# Altium footprint library LQFP.PcbLib: 57 footprints (part 4 of 4)
Each footprint in its own frame and in the unit in brackets; x right, y up, seen from the top. Pads: shape width x height; smd on the part's side, far side on the other; paste and mask are expansions set on the pad; w line width, h text height; cw(c..) or ccw(c..) is an arc to the next point about the centre after c.
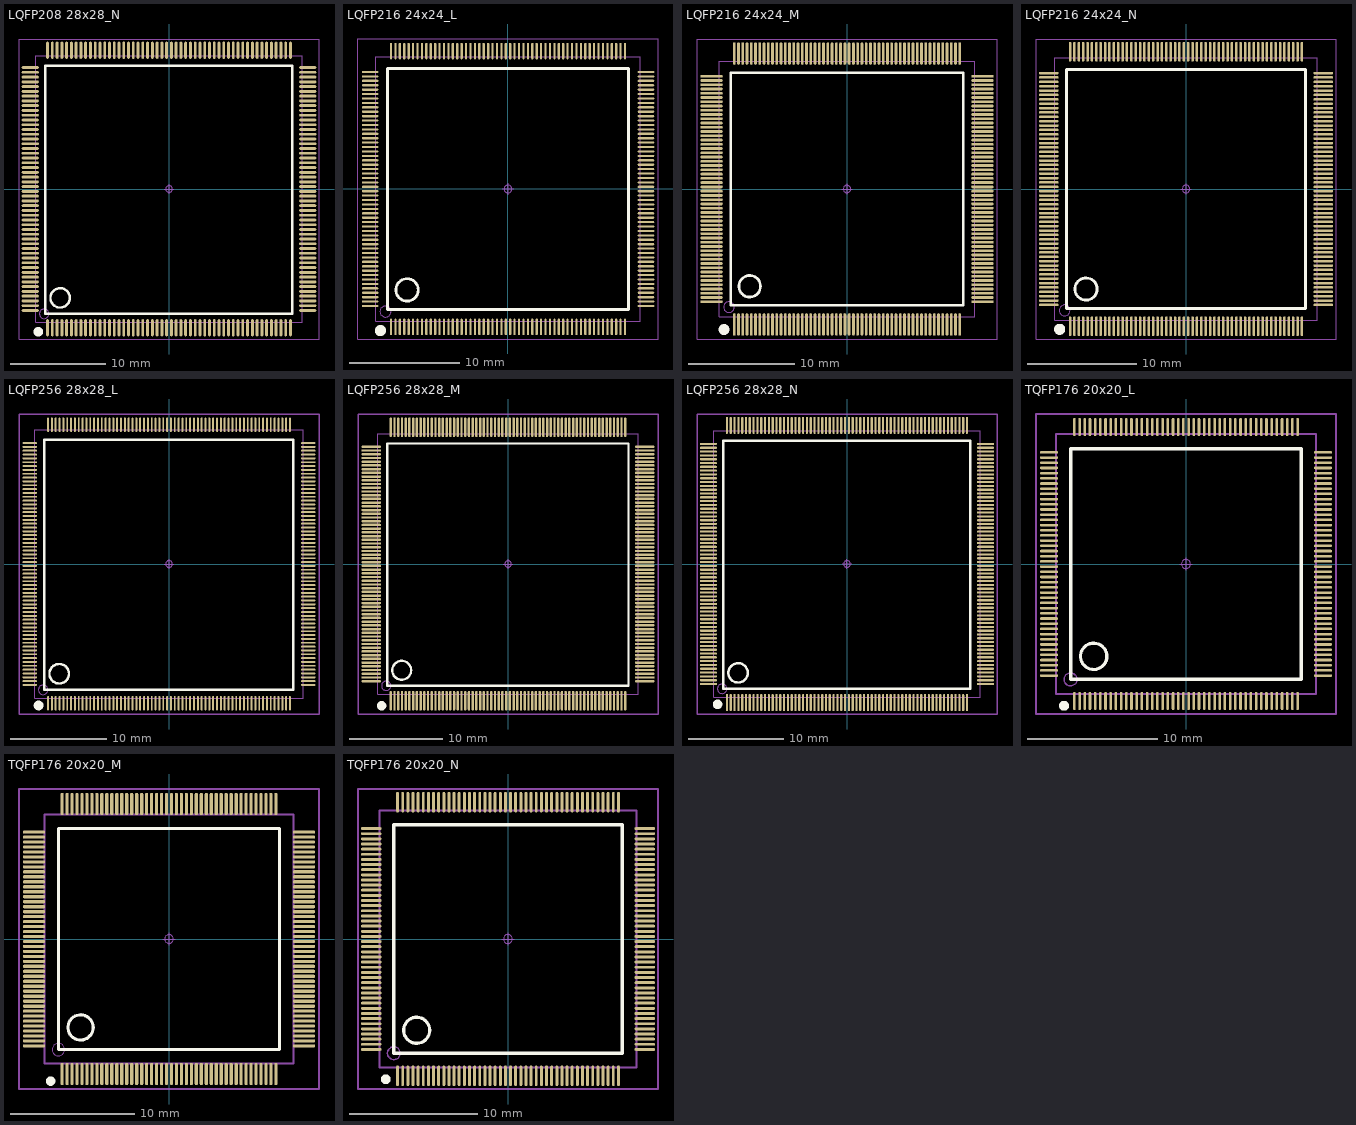
[diagram p3: the footprints below, top view; thin cyan lines are the x and y axes]

## LQFP208 28x28_N [mm] "208脚，体宽28x28mm，脚距0.5mm"
height 4.3
pads (208):
  oval 0.3x1.8 smd: 1(-12.75,-14.568) 2(-12.25,-14.568) 3(-11.75,-14.568) 4(-11.25,-14.568) 5(-10.75,-14.568) 6(-10.25,-14.568) 7(-9.75,-14.568) 8(-9.25,-14.568) 9(-8.75,-14.568) 10(-8.25,-14.568) 11(-7.75,-14.568) 12(-7.25,-14.568) 13(-6.75,-14.568) 14(-6.25,-14.568) 15(-5.75,-14.568) 16(-5.25,-14.568) 17(-4.75,-14.568) 18(-4.25,-14.568) 19(-3.75,-14.568) 20(-3.25,-14.568) 21(-2.75,-14.568) 22(-2.25,-14.568) 23(-1.75,-14.568) 24(-1.25,-14.568) 25(-0.75,-14.568) 26(-0.25,-14.568) 27(0.25,-14.568) 28(0.75,-14.568) 29(1.25,-14.568) 30(1.75,-14.568) 31(2.25,-14.568) 32(2.75,-14.568) 33(3.25,-14.568) 34(3.75,-14.568) 35(4.25,-14.568) 36(4.75,-14.568) 37(5.25,-14.568) 38(5.75,-14.568) 39(6.25,-14.568) 40(6.75,-14.568) 41(7.25,-14.568) 42(7.75,-14.568) 43(8.25,-14.568) 44(8.75,-14.568) 45(9.25,-14.568) 46(9.75,-14.568) 47(10.25,-14.568) 48(10.75,-14.568) 49(11.25,-14.568) 50(11.75,-14.568) 51(12.25,-14.568) 52(12.75,-14.568) 105(12.75,14.568) 106(12.25,14.568) 107(11.75,14.568) 108(11.25,14.568) 109(10.75,14.568) 110(10.25,14.568) 111(9.75,14.568) 112(9.25,14.568) 113(8.75,14.568) 114(8.25,14.568) 115(7.75,14.568) 116(7.25,14.568) 117(6.75,14.568) 118(6.25,14.568) 119(5.75,14.568) 120(5.25,14.568) 121(4.75,14.568) 122(4.25,14.568) 123(3.75,14.568) 124(3.25,14.568) 125(2.75,14.568) 126(2.25,14.568) 127(1.75,14.568) 128(1.25,14.568) 129(0.75,14.568) 130(0.25,14.568) 131(-0.25,14.568) 132(-0.75,14.568) 133(-1.25,14.568) 134(-1.75,14.568) 135(-2.25,14.568) 136(-2.75,14.568) 137(-3.25,14.568) 138(-3.75,14.568) 139(-4.25,14.568) 140(-4.75,14.568) 141(-5.25,14.568) 142(-5.75,14.568) 143(-6.25,14.568) 144(-6.75,14.568) 145(-7.25,14.568) 146(-7.75,14.568) 147(-8.25,14.568) 148(-8.75,14.568) 149(-9.25,14.568) 150(-9.75,14.568) 151(-10.25,14.568) 152(-10.75,14.568) 153(-11.25,14.568) 154(-11.75,14.568) 155(-12.25,14.568) 156(-12.75,14.568)
  oval 1.8x0.3 smd: 53(14.568,-12.75) 54(14.568,-12.25) 55(14.568,-11.75) 56(14.568,-11.25) 57(14.568,-10.75) 58(14.568,-10.25) 59(14.568,-9.75) 60(14.568,-9.25) 61(14.568,-8.75) 62(14.568,-8.25) 63(14.568,-7.75) 64(14.568,-7.25) 65(14.568,-6.75) 66(14.568,-6.25) 67(14.568,-5.75) 68(14.568,-5.25) 69(14.568,-4.75) 70(14.568,-4.25) 71(14.568,-3.75) 72(14.568,-3.25) 73(14.568,-2.75) 74(14.568,-2.25) 75(14.568,-1.75) 76(14.568,-1.25) 77(14.568,-0.75) 78(14.568,-0.25) 79(14.568,0.25) 80(14.568,0.75) 81(14.568,1.25) 82(14.568,1.75) 83(14.568,2.25) 84(14.568,2.75) 85(14.568,3.25) 86(14.568,3.75) 87(14.568,4.25) 88(14.568,4.75) 89(14.568,5.25) 90(14.568,5.75) 91(14.568,6.25) 92(14.568,6.75) 93(14.568,7.25) 94(14.568,7.75) 95(14.568,8.25) 96(14.568,8.75) 97(14.568,9.25) 98(14.568,9.75) 99(14.568,10.25) 100(14.568,10.75) 101(14.568,11.25) 102(14.568,11.75) 103(14.568,12.25) 104(14.568,12.75) 157(-14.568,12.75) 158(-14.568,12.25) 159(-14.568,11.75) 160(-14.568,11.25) 161(-14.568,10.75) 162(-14.568,10.25) 163(-14.568,9.75) 164(-14.568,9.25) 165(-14.568,8.75) 166(-14.568,8.25) 167(-14.568,7.75) 168(-14.568,7.25) 169(-14.568,6.75) 170(-14.568,6.25) 171(-14.568,5.75) 172(-14.568,5.25) 173(-14.568,4.75) 174(-14.568,4.25) 175(-14.568,3.75) 176(-14.568,3.25) 177(-14.568,2.75) 178(-14.568,2.25) 179(-14.568,1.75) 180(-14.568,1.25) 181(-14.568,0.75) 182(-14.568,0.25) 183(-14.568,-0.25) 184(-14.568,-0.75) 185(-14.568,-1.25) 186(-14.568,-1.75) 187(-14.568,-2.25) 188(-14.568,-2.75) 189(-14.568,-3.25) 190(-14.568,-3.75) 191(-14.568,-4.25) 192(-14.568,-4.75) 193(-14.568,-5.25) 194(-14.568,-5.75) 195(-14.568,-6.25) 196(-14.568,-6.75) 197(-14.568,-7.25) 198(-14.568,-7.75) 199(-14.568,-8.25) 200(-14.568,-8.75) 201(-14.568,-9.25) 202(-14.568,-9.75) 203(-14.568,-10.25) 204(-14.568,-10.75) 205(-14.568,-11.25) 206(-14.568,-11.75) 207(-14.568,-12.25) 208(-14.568,-12.75)
Top Overlay:
  circle w0.508: c-13.716,-14.986 r0.25
  circle w0.254: c-11.43,-11.43 r1.016
  lines w0.254: -13,-13.081 -13,12.954 12.954,12.954 12.954,-13.081 -13,-13.081
Mechanical 13:
  circle w0.1: c-13.1,-13.1 r0.5
  lines w0.1: -14,-14 14,-14 14,14 -14,14 -14,-14
Mechanical 15:
  circle w0.05: c0,0 r0.35
  lines w0.05: -0.5,0 0.5,0 ; 0,-0.5 0,0.5
  lines w0.1: -15.748,-15.748 -15.748,15.748 15.748,15.748 15.748,-15.748 -15.748,-15.748
3D body: height 1.45, standoff -0.01, extent -15.003,-15.003 15.003,15.003

## LQFP216 24x24_L [mm] "216脚，体宽24x24mm，脚距0.4mm"
pads (216):
  oval 0.2x1.5 smd: 1(-10.598,-12.498) 2(-10.198,-12.498) 3(-9.798,-12.498) 4(-9.398,-12.498) 5(-8.998,-12.498) 6(-8.598,-12.498) 7(-8.198,-12.498) 8(-7.798,-12.498) 9(-7.398,-12.498) 10(-6.998,-12.498) 11(-6.598,-12.498) 12(-6.198,-12.498) 13(-5.798,-12.498) 14(-5.398,-12.498) 15(-4.998,-12.498) 16(-4.598,-12.498) 17(-4.198,-12.498) 18(-3.798,-12.498) 19(-3.398,-12.498) 20(-2.998,-12.498) 21(-2.598,-12.498) 22(-2.198,-12.498) 23(-1.798,-12.498) 24(-1.398,-12.498) 25(-0.998,-12.498) 26(-0.598,-12.498) 27(-0.198,-12.498) 28(0.202,-12.498) 29(0.602,-12.498) 30(1.002,-12.498) 31(1.402,-12.498) 32(1.802,-12.498) 33(2.202,-12.498) 34(2.602,-12.498) 35(3.002,-12.498) 36(3.402,-12.498) 37(3.802,-12.498) 38(4.202,-12.498) 39(4.602,-12.498) 40(5.002,-12.498) 41(5.402,-12.498) 42(5.802,-12.498) 43(6.202,-12.498) 44(6.602,-12.498) 45(7.002,-12.498) 46(7.402,-12.498) 47(7.802,-12.498) 48(8.202,-12.498) 49(8.602,-12.498) 50(9.002,-12.498) 51(9.402,-12.498) 52(9.802,-12.498) 53(10.202,-12.498) 54(10.602,-12.498) 109(10.602,12.498) 110(10.202,12.498) 111(9.802,12.498) 112(9.402,12.498) 113(9.002,12.498) 114(8.602,12.498) 115(8.202,12.498) 116(7.802,12.498) 117(7.402,12.498) 118(7.002,12.498) 119(6.602,12.498) 120(6.202,12.498) 121(5.802,12.498) 122(5.402,12.498) 123(5.002,12.498) 124(4.602,12.498) 125(4.202,12.498) 126(3.802,12.498) 127(3.402,12.498) 128(3.002,12.498) 129(2.602,12.498) 130(2.202,12.498) 131(1.802,12.498) 132(1.402,12.498) 133(1.002,12.498) 134(0.602,12.498) 135(0.202,12.498) 136(-0.198,12.498) 137(-0.598,12.498) 138(-0.998,12.498) 139(-1.398,12.498) 140(-1.798,12.498) 141(-2.198,12.498) 142(-2.598,12.498) 143(-2.998,12.498) 144(-3.398,12.498) 145(-3.798,12.498) 146(-4.198,12.498) 147(-4.598,12.498) 148(-4.998,12.498) 149(-5.398,12.498) 150(-5.798,12.498) 151(-6.198,12.498) 152(-6.598,12.498) 153(-6.998,12.498) 154(-7.398,12.498) 155(-7.798,12.498) 156(-8.198,12.498) 157(-8.598,12.498) 158(-8.998,12.498) 159(-9.398,12.498) 160(-9.798,12.498) 161(-10.198,12.498) 162(-10.598,12.498)
  oval 1.5x0.2 smd: 55(12.5,-10.6) 56(12.5,-10.2) 57(12.5,-9.8) 58(12.5,-9.4) 59(12.5,-9) 60(12.5,-8.6) 61(12.5,-8.2) 62(12.5,-7.8) 63(12.5,-7.4) 64(12.5,-7) 65(12.5,-6.6) 66(12.5,-6.2) 67(12.5,-5.8) 68(12.5,-5.4) 69(12.5,-5) 70(12.5,-4.6) 71(12.5,-4.2) 72(12.5,-3.8) 73(12.5,-3.4) 74(12.5,-3) 75(12.5,-2.6) 76(12.5,-2.2) 77(12.5,-1.8) 78(12.5,-1.4) 79(12.5,-1) 80(12.5,-0.6) 81(12.5,-0.2) 82(12.5,0.2) 83(12.5,0.6) 84(12.5,1) 85(12.5,1.4) 86(12.5,1.8) 87(12.5,2.2) 88(12.5,2.6) 89(12.5,3) 90(12.5,3.4) 91(12.5,3.8) 92(12.5,4.2) 93(12.5,4.6) 94(12.5,5) 95(12.5,5.4) 96(12.5,5.8) 97(12.5,6.2) 98(12.5,6.6) 99(12.5,7) 100(12.5,7.4) 101(12.5,7.8) 102(12.5,8.2) 103(12.5,8.6) 104(12.5,9) 105(12.5,9.4) 106(12.5,9.8) 107(12.5,10.2) 108(12.5,10.6) 163(-12.497,10.6) 164(-12.497,10.2) 165(-12.497,9.8) 166(-12.497,9.4) 167(-12.497,9) 168(-12.497,8.6) 169(-12.497,8.2) 170(-12.497,7.8) 171(-12.497,7.4) 172(-12.497,7) 173(-12.497,6.6) 174(-12.497,6.2) 175(-12.497,5.8) 176(-12.497,5.4) 177(-12.497,5) 178(-12.497,4.6) 179(-12.497,4.2) 180(-12.497,3.8) 181(-12.497,3.4) 182(-12.497,3) 183(-12.497,2.6) 184(-12.497,2.2) 185(-12.497,1.8) 186(-12.497,1.4) 187(-12.497,1) 188(-12.497,0.6) 189(-12.497,0.2) 190(-12.497,-0.2) 191(-12.497,-0.6) 192(-12.497,-1) 193(-12.497,-1.4) 194(-12.497,-1.8) 195(-12.497,-2.2) 196(-12.497,-2.6) 197(-12.497,-3) 198(-12.497,-3.4) 199(-12.497,-3.8) 200(-12.497,-4.2) 201(-12.497,-4.6) 202(-12.497,-5) 203(-12.497,-5.4) 204(-12.497,-5.8) 205(-12.497,-6.2) 206(-12.497,-6.6) 207(-12.497,-7) 208(-12.497,-7.4) 209(-12.497,-7.8) 210(-12.497,-8.2) 211(-12.497,-8.6) 212(-12.497,-9) 213(-12.497,-9.4) 214(-12.497,-9.8) 215(-12.497,-10.2) 216(-12.497,-10.6)
Top Overlay:
  circle w0.508: c-11.557,-12.827 r0.25
  circle w0.254: c-9.142,-9.144 r1.016
  lines w0.254: -10.92,-10.922 10.924,-10.922 10.924,10.922 -10.92,10.922 -10.92,-10.922
Mechanical 13:
  circle w0.1: c-11.098,-11.1 r0.5
  lines w0.1: -11.998,-12 -11.998,12 12.002,12 12.002,-12 -11.998,-12
Mechanical 15:
  circle w0.05: c0.002,0 r0.35
  lines w0.05: -0.498,0 0.502,0 ; 0.002,-0.5 0.002,0.5
  lines w0.1: -13.589,-13.589 13.589,-13.589 13.589,13.589 -13.589,13.589 -13.589,-13.589
3D body: height 1.45, standoff -0.01, extent -13.001,-13.003 13.004,13.003

## LQFP216 24x24_M [mm] "216脚，体宽24x24mm，脚距0.4mm"
pads (216):
  oval 0.26x2.1 smd: 1(-10.6,-12.727) 2(-10.2,-12.727) 3(-9.8,-12.727) 4(-9.4,-12.727) 5(-9,-12.727) 6(-8.6,-12.727) 7(-8.2,-12.727) 8(-7.8,-12.727) 9(-7.4,-12.727) 10(-7,-12.727) 11(-6.6,-12.727) 12(-6.2,-12.727) 13(-5.8,-12.727) 14(-5.4,-12.727) 15(-5,-12.727) 16(-4.6,-12.727) 17(-4.2,-12.727) 18(-3.8,-12.727) 19(-3.4,-12.727) 20(-3,-12.727) 21(-2.6,-12.727) 22(-2.2,-12.727) 23(-1.8,-12.727) 24(-1.4,-12.727) 25(-1,-12.727) 26(-0.6,-12.727) 27(-0.2,-12.727) 28(0.2,-12.727) 29(0.6,-12.727) 30(1,-12.727) 31(1.4,-12.727) 32(1.8,-12.727) 33(2.2,-12.727) 34(2.6,-12.727) 35(3,-12.727) 36(3.4,-12.727) 37(3.8,-12.727) 38(4.2,-12.727) 39(4.6,-12.727) 40(5,-12.727) 41(5.4,-12.727) 42(5.8,-12.727) 43(6.2,-12.727) 44(6.6,-12.727) 45(7,-12.727) 46(7.4,-12.727) 47(7.8,-12.727) 48(8.2,-12.727) 49(8.6,-12.727) 50(9,-12.727) 51(9.4,-12.727) 52(9.8,-12.727) 53(10.2,-12.727) 54(10.6,-12.727) 109(10.6,12.727) 110(10.2,12.727) 111(9.8,12.727) 112(9.4,12.727) 113(9,12.727) 114(8.6,12.727) 115(8.2,12.727) 116(7.8,12.727) 117(7.4,12.727) 118(7,12.727) 119(6.6,12.727) 120(6.2,12.727) 121(5.8,12.727) 122(5.4,12.727) 123(5,12.727) 124(4.6,12.727) 125(4.2,12.727) 126(3.8,12.727) 127(3.4,12.727) 128(3,12.727) 129(2.6,12.727) 130(2.2,12.727) 131(1.8,12.727) 132(1.4,12.727) 133(1,12.727) 134(0.6,12.727) 135(0.2,12.727) 136(-0.2,12.727) 137(-0.6,12.727) 138(-1,12.727) 139(-1.4,12.727) 140(-1.8,12.727) 141(-2.2,12.727) 142(-2.6,12.727) 143(-3,12.727) 144(-3.4,12.727) 145(-3.8,12.727) 146(-4.2,12.727) 147(-4.6,12.727) 148(-5,12.727) 149(-5.4,12.727) 150(-5.8,12.727) 151(-6.2,12.727) 152(-6.6,12.727) 153(-7,12.727) 154(-7.4,12.727) 155(-7.8,12.727) 156(-8.2,12.727) 157(-8.6,12.727) 158(-9,12.727) 159(-9.4,12.727) 160(-9.8,12.727) 161(-10.2,12.727) 162(-10.6,12.727)
  oval 2.1x0.26 smd: 55(12.727,-10.6) 56(12.727,-10.2) 57(12.727,-9.8) 58(12.727,-9.4) 59(12.727,-9) 60(12.727,-8.6) 61(12.727,-8.2) 62(12.727,-7.8) 63(12.727,-7.4) 64(12.727,-7) 65(12.727,-6.6) 66(12.727,-6.2) 67(12.727,-5.8) 68(12.727,-5.4) 69(12.727,-5) 70(12.727,-4.6) 71(12.727,-4.2) 72(12.727,-3.8) 73(12.727,-3.4) 74(12.727,-3) 75(12.727,-2.6) 76(12.727,-2.2) 77(12.727,-1.8) 78(12.727,-1.4) 79(12.727,-1) 80(12.727,-0.6) 81(12.727,-0.2) 82(12.727,0.2) 83(12.727,0.6) 84(12.727,1) 85(12.727,1.4) 86(12.727,1.8) 87(12.727,2.2) 88(12.727,2.6) 89(12.727,3) 90(12.727,3.4) 91(12.727,3.8) 92(12.727,4.2) 93(12.727,4.6) 94(12.727,5) 95(12.727,5.4) 96(12.727,5.8) 97(12.727,6.2) 98(12.727,6.6) 99(12.727,7) 100(12.727,7.4) 101(12.727,7.8) 102(12.727,8.2) 103(12.727,8.6) 104(12.727,9) 105(12.727,9.4) 106(12.727,9.8) 107(12.727,10.2) 108(12.727,10.6) 163(-12.727,10.6) 164(-12.727,10.2) 165(-12.727,9.8) 166(-12.727,9.4) 167(-12.727,9) 168(-12.727,8.6) 169(-12.727,8.2) 170(-12.727,7.8) 171(-12.727,7.4) 172(-12.727,7) 173(-12.727,6.6) 174(-12.727,6.2) 175(-12.727,5.8) 176(-12.727,5.4) 177(-12.727,5) 178(-12.727,4.6) 179(-12.727,4.2) 180(-12.727,3.8) 181(-12.727,3.4) 182(-12.727,3) 183(-12.727,2.6) 184(-12.727,2.2) 185(-12.727,1.8) 186(-12.727,1.4) 187(-12.727,1) 188(-12.727,0.6) 189(-12.727,0.2) 190(-12.727,-0.2) 191(-12.727,-0.6) 192(-12.727,-1) 193(-12.727,-1.4) 194(-12.727,-1.8) 195(-12.727,-2.2) 196(-12.727,-2.6) 197(-12.727,-3) 198(-12.727,-3.4) 199(-12.727,-3.8) 200(-12.727,-4.2) 201(-12.727,-4.6) 202(-12.727,-5) 203(-12.727,-5.4) 204(-12.727,-5.8) 205(-12.727,-6.2) 206(-12.727,-6.6) 207(-12.727,-7) 208(-12.727,-7.4) 209(-12.727,-7.8) 210(-12.727,-8.2) 211(-12.727,-8.6) 212(-12.727,-9) 213(-12.727,-9.4) 214(-12.727,-9.8) 215(-12.727,-10.2) 216(-12.727,-10.6)
Top Overlay:
  circle w0.254: c-9.144,-9.144 r1.016
  circle w0.508: c-11.557,-13.208 r0.25
  lines w0.254: -10.922,-10.922 -10.922,10.922 10.922,10.922 10.922,-10.922 -10.922,-10.922
Mechanical 13:
  circle w0.1: c-11.1,-11.1 r0.5
  lines w0.1: -12,-12 12,-12 12,12 -12,12 -12,-12
Mechanical 15:
  circle w0.05: c0,0 r0.35
  lines w0.05: -0.5,0 0.5,0 ; 0,-0.5 0,0.5
  lines w0.1: -14.097,-14.097 -14.097,14.097 14.097,14.097 14.097,-14.097 -14.097,-14.097
3D body: height 1.45, standoff -0.01, extent -13.003,-13.003 13.003,13.003

## LQFP216 24x24_N [mm] "216脚，体宽24x24mm，脚距0.4mm"
pads (216):
  oval 0.23x1.8 smd: 1(-10.6,-12.551) 2(-10.2,-12.551) 3(-9.8,-12.551) 4(-9.4,-12.551) 5(-9,-12.551) 6(-8.6,-12.551) 7(-8.2,-12.551) 8(-7.8,-12.551) 9(-7.4,-12.551) 10(-7,-12.551) 11(-6.6,-12.551) 12(-6.2,-12.551) 13(-5.8,-12.551) 14(-5.4,-12.551) 15(-5,-12.551) 16(-4.6,-12.551) 17(-4.2,-12.551) 18(-3.8,-12.551) 19(-3.4,-12.551) 20(-3,-12.551) 21(-2.6,-12.551) 22(-2.2,-12.551) 23(-1.8,-12.551) 24(-1.4,-12.551) 25(-1,-12.551) 26(-0.6,-12.551) 27(-0.2,-12.551) 28(0.2,-12.551) 29(0.6,-12.551) 30(1,-12.551) 31(1.4,-12.551) 32(1.8,-12.551) 33(2.2,-12.551) 34(2.6,-12.551) 35(3,-12.551) 36(3.4,-12.551) 37(3.8,-12.551) 38(4.2,-12.551) 39(4.6,-12.551) 40(5,-12.551) 41(5.4,-12.551) 42(5.8,-12.551) 43(6.2,-12.551) 44(6.6,-12.551) 45(7,-12.551) 46(7.4,-12.551) 47(7.8,-12.551) 48(8.2,-12.551) 49(8.6,-12.551) 50(9,-12.551) 51(9.4,-12.551) 52(9.8,-12.551) 53(10.2,-12.551) 54(10.6,-12.551) 109(10.6,12.548) 110(10.2,12.548) 111(9.8,12.548) 112(9.4,12.548) 113(9,12.548) 114(8.6,12.548) 115(8.2,12.548) 116(7.8,12.548) 117(7.4,12.548) 118(7,12.548) 119(6.6,12.548) 120(6.2,12.548) 121(5.8,12.548) 122(5.4,12.548) 123(5,12.548) 124(4.6,12.548) 125(4.2,12.548) 126(3.8,12.548) 127(3.4,12.548) 128(3,12.548) 129(2.6,12.548) 130(2.2,12.548) 131(1.8,12.548) 132(1.4,12.548) 133(1,12.548) 134(0.6,12.548) 135(0.2,12.548) 136(-0.2,12.548) 137(-0.6,12.548) 138(-1,12.548) 139(-1.4,12.548) 140(-1.8,12.548) 141(-2.2,12.548) 142(-2.6,12.548) 143(-3,12.548) 144(-3.4,12.548) 145(-3.8,12.548) 146(-4.2,12.548) 147(-4.6,12.548) 148(-5,12.548) 149(-5.4,12.548) 150(-5.8,12.548) 151(-6.2,12.548) 152(-6.6,12.548) 153(-7,12.548) 154(-7.4,12.548) 155(-7.8,12.548) 156(-8.2,12.548) 157(-8.6,12.548) 158(-9,12.548) 159(-9.4,12.548) 160(-9.8,12.548) 161(-10.2,12.548) 162(-10.6,12.548)
  oval 1.8x0.23 smd: 55(12.549,-10.602) 56(12.549,-10.202) 57(12.549,-9.802) 58(12.549,-9.402) 59(12.549,-9.002) 60(12.549,-8.602) 61(12.549,-8.202) 62(12.549,-7.802) 63(12.549,-7.402) 64(12.549,-7.002) 65(12.549,-6.602) 66(12.549,-6.202) 67(12.549,-5.802) 68(12.549,-5.402) 69(12.549,-5.002) 70(12.549,-4.602) 71(12.549,-4.202) 72(12.549,-3.802) 73(12.549,-3.402) 74(12.549,-3.002) 75(12.549,-2.602) 76(12.549,-2.202) 77(12.549,-1.802) 78(12.549,-1.402) 79(12.549,-1.002) 80(12.549,-0.602) 81(12.549,-0.202) 82(12.549,0.198) 83(12.549,0.598) 84(12.549,0.998) 85(12.549,1.398) 86(12.549,1.798) 87(12.549,2.198) 88(12.549,2.598) 89(12.549,2.998) 90(12.549,3.398) 91(12.549,3.798) 92(12.549,4.198) 93(12.549,4.598) 94(12.549,4.998) 95(12.549,5.398) 96(12.549,5.798) 97(12.549,6.198) 98(12.549,6.598) 99(12.549,6.998) 100(12.549,7.398) 101(12.549,7.798) 102(12.549,8.198) 103(12.549,8.598) 104(12.549,8.998) 105(12.549,9.398) 106(12.549,9.798) 107(12.549,10.198) 108(12.549,10.598) 163(-12.549,10.598) 164(-12.549,10.198) 165(-12.549,9.798) 166(-12.549,9.398) 167(-12.549,8.998) 168(-12.549,8.598) 169(-12.549,8.198) 170(-12.549,7.798) 171(-12.549,7.398) 172(-12.549,6.998) 173(-12.549,6.598) 174(-12.549,6.198) 175(-12.549,5.798) 176(-12.549,5.398) 177(-12.549,4.998) 178(-12.549,4.598) 179(-12.549,4.198) 180(-12.549,3.798) 181(-12.549,3.398) 182(-12.549,2.998) 183(-12.549,2.598) 184(-12.549,2.198) 185(-12.549,1.798) 186(-12.549,1.398) 187(-12.549,0.998) 188(-12.549,0.598) 189(-12.549,0.198) 190(-12.549,-0.202) 191(-12.549,-0.602) 192(-12.549,-1.002) 193(-12.549,-1.402) 194(-12.549,-1.802) 195(-12.549,-2.202) 196(-12.549,-2.602) 197(-12.549,-3.002) 198(-12.549,-3.402) 199(-12.549,-3.802) 200(-12.549,-4.202) 201(-12.549,-4.602) 202(-12.549,-5.002) 203(-12.549,-5.402) 204(-12.549,-5.802) 205(-12.549,-6.202) 206(-12.549,-6.602) 207(-12.549,-7.002) 208(-12.549,-7.402) 209(-12.549,-7.802) 210(-12.549,-8.202) 211(-12.549,-8.602) 212(-12.549,-9.002) 213(-12.549,-9.402) 214(-12.549,-9.802) 215(-12.549,-10.202) 216(-12.549,-10.602)
Top Overlay:
  circle w0.508: c-11.557,-12.827 r0.25
  circle w0.254: c-9.144,-9.146 r1.016
  lines w0.254: -10.922,-10.924 10.922,-10.924 10.922,10.92 -10.922,10.92 -10.922,-10.924
Mechanical 13:
  circle w0.1: c-11.1,-11.102 r0.5
  lines w0.1: -12,-12.002 -12,11.998 12,11.998 12,-12.002 -12,-12.002
Mechanical 15:
  circle w0.05: c0,-0.002 r0.35
  lines w0.05: -0.5,-0.002 0.5,-0.002 ; 0,-0.502 0,0.498
  lines w0.1: -13.716,-13.716 13.716,-13.716 13.716,13.716 -13.716,13.716 -13.716,-13.716
3D body: height 1.45, standoff -0.01, extent -13.003,-13.004 13.003,13.001

## LQFP256 28x28_L [mm] "256脚，体宽28x28mm，脚距0.4mm"
pads (256):
  oval 0.2x1.5 smd: 1(-12.605,-14.497) 2(-12.205,-14.497) 3(-11.805,-14.497) 4(-11.405,-14.497) 5(-11.005,-14.497) 6(-10.605,-14.497) 7(-10.205,-14.497) 8(-9.805,-14.497) 9(-9.405,-14.497) 10(-9.005,-14.497) 11(-8.605,-14.497) 12(-8.205,-14.497) 13(-7.805,-14.497) 14(-7.405,-14.497) 15(-7.005,-14.497) 16(-6.605,-14.497) 17(-6.205,-14.497) 18(-5.805,-14.497) 19(-5.405,-14.497) 20(-5.005,-14.497) 21(-4.605,-14.497) 22(-4.205,-14.497) 23(-3.805,-14.497) 24(-3.405,-14.497) 25(-3.005,-14.497) 26(-2.605,-14.497) 27(-2.205,-14.497) 28(-1.805,-14.497) 29(-1.405,-14.497) 30(-1.005,-14.497) 31(-0.605,-14.497) 32(-0.205,-14.497) 33(0.195,-14.497) 34(0.595,-14.497) 35(0.995,-14.497) 36(1.395,-14.497) 37(1.795,-14.497) 38(2.195,-14.497) 39(2.595,-14.497) 40(2.995,-14.497) 41(3.395,-14.497) 42(3.795,-14.497) 43(4.195,-14.497) 44(4.595,-14.497) 45(4.995,-14.497) 46(5.395,-14.497) 47(5.795,-14.497) 48(6.195,-14.497) 49(6.595,-14.497) 50(6.995,-14.497) 51(7.395,-14.497) 52(7.795,-14.497) 53(8.195,-14.497) 54(8.595,-14.497) 55(8.995,-14.497) 56(9.395,-14.497) 57(9.795,-14.497) 58(10.195,-14.497) 59(10.595,-14.497) 60(10.995,-14.497) 61(11.395,-14.497) 62(11.795,-14.497) 63(12.195,-14.497) 64(12.595,-14.497) 129(12.595,14.5) 130(12.195,14.5) 131(11.795,14.5) 132(11.395,14.5) 133(10.995,14.5) 134(10.595,14.5) 135(10.195,14.5) 136(9.795,14.5) 137(9.395,14.5) 138(8.995,14.5) 139(8.595,14.5) 140(8.195,14.5) 141(7.795,14.5) 142(7.395,14.5) 143(6.995,14.5) 144(6.595,14.5) 145(6.195,14.5) 146(5.795,14.5) 147(5.395,14.5) 148(4.995,14.5) 149(4.595,14.5) 150(4.195,14.5) 151(3.795,14.5) 152(3.395,14.5) 153(2.995,14.5) 154(2.595,14.5) 155(2.195,14.5) 156(1.795,14.5) 157(1.395,14.5) 158(0.995,14.5) 159(0.595,14.5) 160(0.195,14.5) 161(-0.205,14.5) 162(-0.605,14.5) 163(-1.005,14.5) 164(-1.405,14.5) 165(-1.805,14.5) 166(-2.205,14.5) 167(-2.605,14.5) 168(-3.005,14.5) 169(-3.405,14.5) 170(-3.805,14.5) 171(-4.205,14.5) 172(-4.605,14.5) 173(-5.005,14.5) 174(-5.405,14.5) 175(-5.805,14.5) 176(-6.205,14.5) 177(-6.605,14.5) 178(-7.005,14.5) 179(-7.405,14.5) 180(-7.805,14.5) 181(-8.205,14.5) 182(-8.605,14.5) 183(-9.005,14.5) 184(-9.405,14.5) 185(-9.805,14.5) 186(-10.205,14.5) 187(-10.605,14.5) 188(-11.005,14.5) 189(-11.405,14.5) 190(-11.805,14.5) 191(-12.205,14.5) 192(-12.605,14.5)
  oval 1.5x0.2 smd: 65(14.493,-12.598) 66(14.493,-12.198) 67(14.493,-11.798) 68(14.493,-11.398) 69(14.493,-10.998) 70(14.493,-10.598) 71(14.493,-10.198) 72(14.493,-9.798) 73(14.493,-9.398) 74(14.493,-8.998) 75(14.493,-8.598) 76(14.493,-8.198) 77(14.493,-7.798) 78(14.493,-7.398) 79(14.493,-6.998) 80(14.493,-6.598) 81(14.493,-6.198) 82(14.493,-5.798) 83(14.493,-5.398) 84(14.493,-4.998) 85(14.493,-4.598) 86(14.493,-4.198) 87(14.493,-3.798) 88(14.493,-3.398) 89(14.493,-2.998) 90(14.493,-2.598) 91(14.493,-2.198) 92(14.493,-1.798) 93(14.493,-1.398) 94(14.493,-0.998) 95(14.493,-0.598) 96(14.493,-0.198) 97(14.493,0.202) 98(14.493,0.602) 99(14.493,1.002) 100(14.493,1.402) 101(14.493,1.802) 102(14.493,2.202) 103(14.493,2.602) 104(14.493,3.002) 105(14.493,3.402) 106(14.493,3.802) 107(14.493,4.202) 108(14.493,4.602) 109(14.493,5.002) 110(14.493,5.402) 111(14.493,5.802) 112(14.493,6.202) 113(14.493,6.602) 114(14.493,7.002) 115(14.493,7.402) 116(14.493,7.802) 117(14.493,8.202) 118(14.493,8.602) 119(14.493,9.002) 120(14.493,9.402) 121(14.493,9.802) 122(14.493,10.202) 123(14.493,10.602) 124(14.493,11.002) 125(14.493,11.402) 126(14.493,11.802) 127(14.493,12.202) 128(14.493,12.602) 193(-14.503,12.602) 194(-14.503,12.202) 195(-14.503,11.802) 196(-14.503,11.402) 197(-14.503,11.002) 198(-14.503,10.602) 199(-14.503,10.202) 200(-14.503,9.802) 201(-14.503,9.402) 202(-14.503,9.002) 203(-14.503,8.602) 204(-14.503,8.202) 205(-14.503,7.802) 206(-14.503,7.402) 207(-14.503,7.002) 208(-14.503,6.602) 209(-14.503,6.202) 210(-14.503,5.802) 211(-14.503,5.402) 212(-14.503,5.002) 213(-14.503,4.602) 214(-14.503,4.202) 215(-14.503,3.802) 216(-14.503,3.402) 217(-14.503,3.002) 218(-14.503,2.602) 219(-14.503,2.202) 220(-14.503,1.802) 221(-14.503,1.402) 222(-14.503,1.002) 223(-14.503,0.602) 224(-14.503,0.202) 225(-14.503,-0.198) 226(-14.503,-0.598) 227(-14.503,-0.998) 228(-14.503,-1.398) 229(-14.503,-1.798) 230(-14.503,-2.198) 231(-14.503,-2.598) 232(-14.503,-2.998) 233(-14.503,-3.398) 234(-14.503,-3.798) 235(-14.503,-4.198) 236(-14.503,-4.598) 237(-14.503,-4.998) 238(-14.503,-5.398) 239(-14.503,-5.798) 240(-14.503,-6.198) 241(-14.503,-6.598) 242(-14.503,-6.998) 243(-14.503,-7.398) 244(-14.503,-7.798) 245(-14.503,-8.198) 246(-14.503,-8.598) 247(-14.503,-8.998) 248(-14.503,-9.398) 249(-14.503,-9.798) 250(-14.503,-10.198) 251(-14.503,-10.598) 252(-14.503,-10.998) 253(-14.503,-11.398) 254(-14.503,-11.798) 255(-14.503,-12.198) 256(-14.503,-12.598)
Top Overlay:
  circle w0.254: c-11.435,-11.428 r1.016
  circle w0.508: c-13.589,-14.732 r0.25
  lines w0.254: -13.005,-13.079 -13.005,12.956 12.949,12.956 12.949,-13.079 -13.005,-13.079
Mechanical 13:
  circle w0.1: c-13.105,-13.098 r0.5
  lines w0.1: -14.005,-13.998 -14.005,14.002 13.995,14.002 13.995,-13.998 -14.005,-13.998
Mechanical 15:
  circle w0.05: c-0.005,0.002 r0.35
  lines w0.05: -0.505,0.002 0.495,0.002 ; -0.005,-0.498 -0.005,0.502
  lines w0.15: -15.626,-15.619 -15.626,15.623 15.616,15.623 15.616,-15.619 -15.626,-15.619
3D body: height 1.45, standoff -0.01, extent -15.008,-15.001 14.998,15.004

## LQFP256 28x28_M [mm] "256脚，体宽28x28mm，脚距0.4mm"
pads (256):
  oval 0.26x2.1 smd: 1(-12.6,-14.702) 2(-12.2,-14.702) 3(-11.8,-14.702) 4(-11.4,-14.702) 5(-11,-14.702) 6(-10.6,-14.702) 7(-10.2,-14.702) 8(-9.8,-14.702) 9(-9.4,-14.702) 10(-9,-14.702) 11(-8.6,-14.702) 12(-8.2,-14.702) 13(-7.8,-14.702) 14(-7.4,-14.702) 15(-7,-14.702) 16(-6.6,-14.702) 17(-6.2,-14.702) 18(-5.8,-14.702) 19(-5.4,-14.702) 20(-5,-14.702) 21(-4.6,-14.702) 22(-4.2,-14.702) 23(-3.8,-14.702) 24(-3.4,-14.702) 25(-3,-14.702) 26(-2.6,-14.702) 27(-2.2,-14.702) 28(-1.8,-14.702) 29(-1.4,-14.702) 30(-1,-14.702) 31(-0.6,-14.702) 32(-0.2,-14.702) 33(0.2,-14.702) 34(0.6,-14.702) 35(1,-14.702) 36(1.4,-14.702) 37(1.8,-14.702) 38(2.2,-14.702) 39(2.6,-14.702) 40(3,-14.702) 41(3.4,-14.702) 42(3.8,-14.702) 43(4.2,-14.702) 44(4.6,-14.702) 45(5,-14.702) 46(5.4,-14.702) 47(5.8,-14.702) 48(6.2,-14.702) 49(6.6,-14.702) 50(7,-14.702) 51(7.4,-14.702) 52(7.8,-14.702) 53(8.2,-14.702) 54(8.6,-14.702) 55(9,-14.702) 56(9.4,-14.702) 57(9.8,-14.702) 58(10.2,-14.702) 59(10.6,-14.702) 60(11,-14.702) 61(11.4,-14.702) 62(11.8,-14.702) 63(12.2,-14.702) 64(12.6,-14.702) 129(12.6,14.702) 130(12.2,14.702) 131(11.8,14.702) 132(11.4,14.702) 133(11,14.702) 134(10.6,14.702) 135(10.2,14.702) 136(9.8,14.702) 137(9.4,14.702) 138(9,14.702) 139(8.6,14.702) 140(8.2,14.702) 141(7.8,14.702) 142(7.4,14.702) 143(7,14.702) 144(6.6,14.702) 145(6.2,14.702) 146(5.8,14.702) 147(5.4,14.702) 148(5,14.702) 149(4.6,14.702) 150(4.2,14.702) 151(3.8,14.702) 152(3.4,14.702) 153(3,14.702) 154(2.6,14.702) 155(2.2,14.702) 156(1.8,14.702) 157(1.4,14.702) 158(1,14.702) 159(0.6,14.702) 160(0.2,14.702) 161(-0.2,14.702) 162(-0.6,14.702) 163(-1,14.702) 164(-1.4,14.702) 165(-1.8,14.702) 166(-2.2,14.702) 167(-2.6,14.702) 168(-3,14.702) 169(-3.4,14.702) 170(-3.8,14.702) 171(-4.2,14.702) 172(-4.6,14.702) 173(-5,14.702) 174(-5.4,14.702) 175(-5.8,14.702) 176(-6.2,14.702) 177(-6.6,14.702) 178(-7,14.702) 179(-7.4,14.702) 180(-7.8,14.702) 181(-8.2,14.702) 182(-8.6,14.702) 183(-9,14.702) 184(-9.4,14.702) 185(-9.8,14.702) 186(-10.2,14.702) 187(-10.6,14.702) 188(-11,14.702) 189(-11.4,14.702) 190(-11.8,14.702) 191(-12.2,14.702) 192(-12.6,14.702)
  oval 2.1x0.26 smd: 65(14.702,-12.6) 66(14.702,-12.2) 67(14.702,-11.8) 68(14.702,-11.4) 69(14.702,-11) 70(14.702,-10.6) 71(14.702,-10.2) 72(14.702,-9.8) 73(14.702,-9.4) 74(14.702,-9) 75(14.702,-8.6) 76(14.702,-8.2) 77(14.702,-7.8) 78(14.702,-7.4) 79(14.702,-7) 80(14.702,-6.6) 81(14.702,-6.2) 82(14.702,-5.8) 83(14.702,-5.4) 84(14.702,-5) 85(14.702,-4.6) 86(14.702,-4.2) 87(14.702,-3.8) 88(14.702,-3.4) 89(14.702,-3) 90(14.702,-2.6) 91(14.702,-2.2) 92(14.702,-1.8) 93(14.702,-1.4) 94(14.702,-1) 95(14.702,-0.6) 96(14.702,-0.2) 97(14.702,0.2) 98(14.702,0.6) 99(14.702,1) 100(14.702,1.4) 101(14.702,1.8) 102(14.702,2.2) 103(14.702,2.6) 104(14.702,3) 105(14.702,3.4) 106(14.702,3.8) 107(14.702,4.2) 108(14.702,4.6) 109(14.702,5) 110(14.702,5.4) 111(14.702,5.8) 112(14.702,6.2) 113(14.702,6.6) 114(14.702,7) 115(14.702,7.4) 116(14.702,7.8) 117(14.702,8.2) 118(14.702,8.6) 119(14.702,9) 120(14.702,9.4) 121(14.702,9.8) 122(14.702,10.2) 123(14.702,10.6) 124(14.702,11) 125(14.702,11.4) 126(14.702,11.8) 127(14.702,12.2) 128(14.702,12.6) 193(-14.702,12.6) 194(-14.702,12.2) 195(-14.702,11.8) 196(-14.702,11.4) 197(-14.702,11) 198(-14.702,10.6) 199(-14.702,10.2) 200(-14.702,9.8) 201(-14.702,9.4) 202(-14.702,9) 203(-14.702,8.6) 204(-14.702,8.2) 205(-14.702,7.8) 206(-14.702,7.4) 207(-14.702,7) 208(-14.702,6.6) 209(-14.702,6.2) 210(-14.702,5.8) 211(-14.702,5.4) 212(-14.702,5) 213(-14.702,4.6) 214(-14.702,4.2) 215(-14.702,3.8) 216(-14.702,3.4) 217(-14.702,3) 218(-14.702,2.6) 219(-14.702,2.2) 220(-14.702,1.8) 221(-14.702,1.4) 222(-14.702,1) 223(-14.702,0.6) 224(-14.702,0.2) 225(-14.702,-0.2) 226(-14.702,-0.6) 227(-14.702,-1) 228(-14.702,-1.4) 229(-14.702,-1.8) 230(-14.702,-2.2) 231(-14.702,-2.6) 232(-14.702,-3) 233(-14.702,-3.4) 234(-14.702,-3.8) 235(-14.702,-4.2) 236(-14.702,-4.6) 237(-14.702,-5) 238(-14.702,-5.4) 239(-14.702,-5.8) 240(-14.702,-6.2) 241(-14.702,-6.6) 242(-14.702,-7) 243(-14.702,-7.4) 244(-14.702,-7.8) 245(-14.702,-8.2) 246(-14.702,-8.6) 247(-14.702,-9) 248(-14.702,-9.4) 249(-14.702,-9.8) 250(-14.702,-10.2) 251(-14.702,-10.6) 252(-14.702,-11) 253(-14.702,-11.4) 254(-14.702,-11.8) 255(-14.702,-12.2) 256(-14.702,-12.6)
Top Overlay:
  circle w0.508: c-13.589,-15.24 r0.25
  circle w0.254: c-11.43,-11.43 r1.016
  lines w0.254: -13,-13.081 12.954,-13.081 12.954,12.954 -13,12.954 -13,-13.081
Mechanical 13:
  circle w0.1: c-13.1,-13.1 r0.5
  lines w0.1: -14,-14 14,-14 14,14 -14,14 -14,-14
Mechanical 15:
  circle w0.05: c0,0 r0.35
  lines w0.05: -0.5,0 0.5,0 ; 0,-0.5 0,0.5
  lines w0.15: -16.129,-16.129 16.129,-16.129 16.129,16.129 -16.129,16.129 -16.129,-16.129
3D body: height 1.45, standoff -0.01, extent -15.003,-15.003 15.003,15.003

## LQFP256 28x28_N [mm] "256脚，体宽28x28mm，脚距0.4mm"
pads (256):
  oval 0.23x1.8 smd: 1(-12.605,-14.548) 2(-12.205,-14.548) 3(-11.805,-14.548) 4(-11.405,-14.548) 5(-11.005,-14.548) 6(-10.605,-14.548) 7(-10.205,-14.548) 8(-9.805,-14.548) 9(-9.405,-14.548) 10(-9.005,-14.548) 11(-8.605,-14.548) 12(-8.205,-14.548) 13(-7.805,-14.548) 14(-7.405,-14.548) 15(-7.005,-14.548) 16(-6.605,-14.548) 17(-6.205,-14.548) 18(-5.805,-14.548) 19(-5.405,-14.548) 20(-5.005,-14.548) 21(-4.605,-14.548) 22(-4.205,-14.548) 23(-3.805,-14.548) 24(-3.405,-14.548) 25(-3.005,-14.548) 26(-2.605,-14.548) 27(-2.205,-14.548) 28(-1.805,-14.548) 29(-1.405,-14.548) 30(-1.005,-14.548) 31(-0.605,-14.548) 32(-0.205,-14.548) 33(0.195,-14.548) 34(0.595,-14.548) 35(0.995,-14.548) 36(1.395,-14.548) 37(1.795,-14.548) 38(2.195,-14.548) 39(2.595,-14.548) 40(2.995,-14.548) 41(3.395,-14.548) 42(3.795,-14.548) 43(4.195,-14.548) 44(4.595,-14.548) 45(4.995,-14.548) 46(5.395,-14.548) 47(5.795,-14.548) 48(6.195,-14.548) 49(6.595,-14.548) 50(6.995,-14.548) 51(7.395,-14.548) 52(7.795,-14.548) 53(8.195,-14.548) 54(8.595,-14.548) 55(8.995,-14.548) 56(9.395,-14.548) 57(9.795,-14.548) 58(10.195,-14.548) 59(10.595,-14.548) 60(10.995,-14.548) 61(11.395,-14.548) 62(11.795,-14.548) 63(12.195,-14.548) 64(12.595,-14.548) 129(12.595,14.551) 130(12.195,14.551) 131(11.795,14.551) 132(11.395,14.551) 133(10.995,14.551) 134(10.595,14.551) 135(10.195,14.551) 136(9.795,14.551) 137(9.395,14.551) 138(8.995,14.551) 139(8.595,14.551) 140(8.195,14.551) 141(7.795,14.551) 142(7.395,14.551) 143(6.995,14.551) 144(6.595,14.551) 145(6.195,14.551) 146(5.795,14.551) 147(5.395,14.551) 148(4.995,14.551) 149(4.595,14.551) 150(4.195,14.551) 151(3.795,14.551) 152(3.395,14.551) 153(2.995,14.551) 154(2.595,14.551) 155(2.195,14.551) 156(1.795,14.551) 157(1.395,14.551) 158(0.995,14.551) 159(0.595,14.551) 160(0.195,14.551) 161(-0.205,14.551) 162(-0.605,14.551) 163(-1.005,14.551) 164(-1.405,14.551) 165(-1.805,14.551) 166(-2.205,14.551) 167(-2.605,14.551) 168(-3.005,14.551) 169(-3.405,14.551) 170(-3.805,14.551) 171(-4.205,14.551) 172(-4.605,14.551) 173(-5.005,14.551) 174(-5.405,14.551) 175(-5.805,14.551) 176(-6.205,14.551) 177(-6.605,14.551) 178(-7.005,14.551) 179(-7.405,14.551) 180(-7.805,14.551) 181(-8.205,14.551) 182(-8.605,14.551) 183(-9.005,14.551) 184(-9.405,14.551) 185(-9.805,14.551) 186(-10.205,14.551) 187(-10.605,14.551) 188(-11.005,14.551) 189(-11.405,14.551) 190(-11.805,14.551) 191(-12.205,14.551) 192(-12.605,14.551)
  oval 1.8x0.23 smd: 65(14.544,-12.598) 66(14.544,-12.198) 67(14.544,-11.798) 68(14.544,-11.398) 69(14.544,-10.998) 70(14.544,-10.598) 71(14.544,-10.198) 72(14.544,-9.798) 73(14.544,-9.398) 74(14.544,-8.998) 75(14.544,-8.598) 76(14.544,-8.198) 77(14.544,-7.798) 78(14.544,-7.398) 79(14.544,-6.998) 80(14.544,-6.598) 81(14.544,-6.198) 82(14.544,-5.798) 83(14.544,-5.398) 84(14.544,-4.998) 85(14.544,-4.598) 86(14.544,-4.198) 87(14.544,-3.798) 88(14.544,-3.398) 89(14.544,-2.998) 90(14.544,-2.598) 91(14.544,-2.198) 92(14.544,-1.798) 93(14.544,-1.398) 94(14.544,-0.998) 95(14.544,-0.598) 96(14.544,-0.198) 97(14.544,0.202) 98(14.544,0.602) 99(14.544,1.002) 100(14.544,1.402) 101(14.544,1.802) 102(14.544,2.202) 103(14.544,2.602) 104(14.544,3.002) 105(14.544,3.402) 106(14.544,3.802) 107(14.544,4.202) 108(14.544,4.602) 109(14.544,5.002) 110(14.544,5.402) 111(14.544,5.802) 112(14.544,6.202) 113(14.544,6.602) 114(14.544,7.002) 115(14.544,7.402) 116(14.544,7.802) 117(14.544,8.202) 118(14.544,8.602) 119(14.544,9.002) 120(14.544,9.402) 121(14.544,9.802) 122(14.544,10.202) 123(14.544,10.602) 124(14.544,11.002) 125(14.544,11.402) 126(14.544,11.802) 127(14.544,12.202) 128(14.544,12.602) 193(-14.554,12.602) 194(-14.554,12.202) 195(-14.554,11.802) 196(-14.554,11.402) 197(-14.554,11.002) 198(-14.554,10.602) 199(-14.554,10.202) 200(-14.554,9.802) 201(-14.554,9.402) 202(-14.554,9.002) 203(-14.554,8.602) 204(-14.554,8.202) 205(-14.554,7.802) 206(-14.554,7.402) 207(-14.554,7.002) 208(-14.554,6.602) 209(-14.554,6.202) 210(-14.554,5.802) 211(-14.554,5.402) 212(-14.554,5.002) 213(-14.554,4.602) 214(-14.554,4.202) 215(-14.554,3.802) 216(-14.554,3.402) 217(-14.554,3.002) 218(-14.554,2.602) 219(-14.554,2.202) 220(-14.554,1.802) 221(-14.554,1.402) 222(-14.554,1.002) 223(-14.554,0.602) 224(-14.554,0.202) 225(-14.554,-0.198) 226(-14.554,-0.598) 227(-14.554,-0.998) 228(-14.554,-1.398) 229(-14.554,-1.798) 230(-14.554,-2.198) 231(-14.554,-2.598) 232(-14.554,-2.998) 233(-14.554,-3.398) 234(-14.554,-3.798) 235(-14.554,-4.198) 236(-14.554,-4.598) 237(-14.554,-4.998) 238(-14.554,-5.398) 239(-14.554,-5.798) 240(-14.554,-6.198) 241(-14.554,-6.598) 242(-14.554,-6.998) 243(-14.554,-7.398) 244(-14.554,-7.798) 245(-14.554,-8.198) 246(-14.554,-8.598) 247(-14.554,-8.998) 248(-14.554,-9.398) 249(-14.554,-9.798) 250(-14.554,-10.198) 251(-14.554,-10.598) 252(-14.554,-10.998) 253(-14.554,-11.398) 254(-14.554,-11.798) 255(-14.554,-12.198) 256(-14.554,-12.598)
Top Overlay:
  circle w0.254: c-11.435,-11.428 r1.016
  circle w0.508: c-13.589,-14.732 r0.25
  lines w0.254: -13.005,-13.079 -13.005,12.956 12.949,12.956 12.949,-13.079 -13.005,-13.079
Mechanical 13:
  circle w0.1: c-13.105,-13.098 r0.5
  lines w0.1: -14.005,-13.998 -14.005,14.002 13.995,14.002 13.995,-13.998 -14.005,-13.998
Mechanical 15:
  circle w0.05: c-0.005,0.002 r0.35
  lines w0.05: -0.505,0.002 0.495,0.002 ; -0.005,-0.498 -0.005,0.502
  lines w0.15: -15.748,-15.748 -15.748,15.748 15.748,15.748 15.748,-15.748 -15.748,-15.748
3D body: height 1.45, standoff -0.01, extent -15.008,-15.001 14.998,15.004

## TQFP176 20x20_L [mm] "176脚，体宽：20x20mm, 脚距：0.4mm"
height 1.6
pads (176):
  oval 0.2x1.4 smd: 1(-8.6,-10.552) 2(-8.2,-10.552) 3(-7.8,-10.552) 4(-7.4,-10.552) 5(-7,-10.552) 6(-6.6,-10.552) 7(-6.2,-10.552) 8(-5.8,-10.552) 9(-5.4,-10.552) 10(-5,-10.552) 11(-4.6,-10.552) 12(-4.2,-10.552) 13(-3.8,-10.552) 14(-3.4,-10.552) 15(-3,-10.552) 16(-2.6,-10.552) 17(-2.2,-10.552) 18(-1.8,-10.552) 19(-1.4,-10.552) 20(-1,-10.552) 21(-0.6,-10.552) 22(-0.2,-10.552) 23(0.2,-10.552) 24(0.6,-10.552) 25(1,-10.552) 26(1.4,-10.552) 27(1.8,-10.552) 28(2.2,-10.552) 29(2.6,-10.552) 30(3,-10.552) 31(3.4,-10.552) 32(3.8,-10.552) 33(4.2,-10.552) 34(4.6,-10.552) 35(5,-10.552) 36(5.4,-10.552) 37(5.8,-10.552) 38(6.2,-10.552) 39(6.6,-10.552) 40(7,-10.552) 41(7.4,-10.552) 42(7.8,-10.552) 43(8.2,-10.552) 44(8.6,-10.552) 89(8.6,10.552) 90(8.2,10.552) 91(7.8,10.552) 92(7.4,10.552) 93(7,10.552) 94(6.6,10.552) 95(6.2,10.552) 96(5.8,10.552) 97(5.4,10.552) 98(5,10.552) 99(4.6,10.552) 100(4.2,10.552) 101(3.8,10.552) 102(3.4,10.552) 103(3,10.552) 104(2.6,10.552) 105(2.2,10.552) 106(1.8,10.552) 107(1.4,10.552) 108(1,10.552) 109(0.6,10.552) 110(0.2,10.552) 111(-0.2,10.552) 112(-0.6,10.552) 113(-1,10.552) 114(-1.4,10.552) 115(-1.8,10.552) 116(-2.2,10.552) 117(-2.6,10.552) 118(-3,10.552) 119(-3.4,10.552) 120(-3.8,10.552) 121(-4.2,10.552) 122(-4.6,10.552) 123(-5,10.552) 124(-5.4,10.552) 125(-5.8,10.552) 126(-6.2,10.552) 127(-6.6,10.552) 128(-7,10.552) 129(-7.4,10.552) 130(-7.8,10.552) 131(-8.2,10.552) 132(-8.6,10.552)
  oval 1.4x0.2 smd: 45(10.552,-8.6) 46(10.552,-8.2) 47(10.552,-7.8) 48(10.552,-7.4) 49(10.552,-7) 50(10.552,-6.6) 51(10.552,-6.2) 52(10.552,-5.8) 53(10.552,-5.4) 54(10.552,-5) 55(10.552,-4.6) 56(10.552,-4.2) 57(10.552,-3.8) 58(10.552,-3.4) 59(10.552,-3) 60(10.552,-2.6) 61(10.552,-2.2) 62(10.552,-1.8) 63(10.552,-1.4) 64(10.552,-1) 65(10.552,-0.6) 66(10.552,-0.2) 67(10.552,0.2) 68(10.552,0.6) 69(10.552,1) 70(10.552,1.4) 71(10.552,1.8) 72(10.552,2.2) 73(10.552,2.6) 74(10.552,3) 75(10.552,3.4) 76(10.552,3.8) 77(10.552,4.2) 78(10.552,4.6) 79(10.552,5) 80(10.552,5.4) 81(10.552,5.8) 82(10.552,6.2) 83(10.552,6.6) 84(10.552,7) 85(10.552,7.4) 86(10.552,7.8) 87(10.552,8.2) 88(10.552,8.6) 133(-10.552,8.6) 134(-10.552,8.2) 135(-10.552,7.8) 136(-10.552,7.4) 137(-10.552,7) 138(-10.552,6.6) 139(-10.552,6.2) 140(-10.552,5.8) 141(-10.552,5.4) 142(-10.552,5) 143(-10.552,4.6) 144(-10.552,4.2) 145(-10.552,3.8) 146(-10.552,3.4) 147(-10.552,3) 148(-10.552,2.6) 149(-10.552,2.2) 150(-10.552,1.8) 151(-10.552,1.4) 152(-10.552,1) 153(-10.552,0.6) 154(-10.552,0.2) 155(-10.552,-0.2) 156(-10.552,-0.6) 157(-10.552,-1) 158(-10.552,-1.4) 159(-10.552,-1.8) 160(-10.552,-2.2) 161(-10.552,-2.6) 162(-10.552,-3) 163(-10.552,-3.4) 164(-10.552,-3.8) 165(-10.552,-4.2) 166(-10.552,-4.6) 167(-10.552,-5) 168(-10.552,-5.4) 169(-10.552,-5.8) 170(-10.552,-6.2) 171(-10.552,-6.6) 172(-10.552,-7) 173(-10.552,-7.4) 174(-10.552,-7.8) 175(-10.552,-8.2) 176(-10.552,-8.6)
Top Overlay:
  circle w0.508: c-9.398,-10.922 r0.127
  circle w0.254: c-7.112,-7.112 r1.016
  lines w0.254: -8.89,-8.89 8.89,-8.89 8.89,8.89 -8.89,8.89 -8.89,-8.89
Mechanical 13:
  circle w0.1: c-8.894,-8.894 r0.5
  lines w0.15: -10,-10 -10,10 10,10 10,-10 -10,-10
Mechanical 15:
  circle w0.05: c0,0 r0.35
  lines w0.05: -0.5,0 0.5,0 ; 0,-0.5 0,0.5
  lines w0.15: -11.557,-11.557 11.557,-11.557 11.557,11.557 -11.557,11.557 -11.557,-11.557
3D body: height 1.45, standoff -0.01, extent -11.003,-11.003 11.003,11.003

## TQFP176 20x20_M [mm] "176脚，体宽：20x20mm, 脚距：0.4mm"
height 1.6
pads (176):
  oval 0.26x1.8 smd: 1(-8.6,-10.857) 2(-8.2,-10.857) 3(-7.8,-10.857) 4(-7.4,-10.857) 5(-7,-10.857) 6(-6.6,-10.857) 7(-6.2,-10.857) 8(-5.8,-10.857) 9(-5.4,-10.857) 10(-5,-10.857) 11(-4.6,-10.857) 12(-4.2,-10.857) 13(-3.8,-10.857) 14(-3.4,-10.857) 15(-3,-10.857) 16(-2.6,-10.857) 17(-2.2,-10.857) 18(-1.8,-10.857) 19(-1.4,-10.857) 20(-1,-10.857) 21(-0.6,-10.857) 22(-0.2,-10.857) 23(0.2,-10.857) 24(0.6,-10.857) 25(1,-10.857) 26(1.4,-10.857) 27(1.8,-10.857) 28(2.2,-10.857) 29(2.6,-10.857) 30(3,-10.857) 31(3.4,-10.857) 32(3.8,-10.857) 33(4.2,-10.857) 34(4.6,-10.857) 35(5,-10.857) 36(5.4,-10.857) 37(5.8,-10.857) 38(6.2,-10.857) 39(6.6,-10.857) 40(7,-10.857) 41(7.4,-10.857) 42(7.8,-10.857) 43(8.2,-10.857) 44(8.6,-10.857) 89(8.6,10.857) 90(8.2,10.857) 91(7.8,10.857) 92(7.4,10.857) 93(7,10.857) 94(6.6,10.857) 95(6.2,10.857) 96(5.8,10.857) 97(5.4,10.857) 98(5,10.857) 99(4.6,10.857) 100(4.2,10.857) 101(3.8,10.857) 102(3.4,10.857) 103(3,10.857) 104(2.6,10.857) 105(2.2,10.857) 106(1.8,10.857) 107(1.4,10.857) 108(1,10.857) 109(0.6,10.857) 110(0.2,10.857) 111(-0.2,10.857) 112(-0.6,10.857) 113(-1,10.857) 114(-1.4,10.857) 115(-1.8,10.857) 116(-2.2,10.857) 117(-2.6,10.857) 118(-3,10.857) 119(-3.4,10.857) 120(-3.8,10.857) 121(-4.2,10.857) 122(-4.6,10.857) 123(-5,10.857) 124(-5.4,10.857) 125(-5.8,10.857) 126(-6.2,10.857) 127(-6.6,10.857) 128(-7,10.857) 129(-7.4,10.857) 130(-7.8,10.857) 131(-8.2,10.857) 132(-8.6,10.857)
  oval 1.8x0.26 smd: 45(10.857,-8.6) 46(10.857,-8.2) 47(10.857,-7.8) 48(10.857,-7.4) 49(10.857,-7) 50(10.857,-6.6) 51(10.857,-6.2) 52(10.857,-5.8) 53(10.857,-5.4) 54(10.857,-5) 55(10.857,-4.6) 56(10.857,-4.2) 57(10.857,-3.8) 58(10.857,-3.4) 59(10.857,-3) 60(10.857,-2.6) 61(10.857,-2.2) 62(10.857,-1.8) 63(10.857,-1.4) 64(10.857,-1) 65(10.857,-0.6) 66(10.857,-0.2) 67(10.857,0.2) 68(10.857,0.6) 69(10.857,1) 70(10.857,1.4) 71(10.857,1.8) 72(10.857,2.2) 73(10.857,2.6) 74(10.857,3) 75(10.857,3.4) 76(10.857,3.8) 77(10.857,4.2) 78(10.857,4.6) 79(10.857,5) 80(10.857,5.4) 81(10.857,5.8) 82(10.857,6.2) 83(10.857,6.6) 84(10.857,7) 85(10.857,7.4) 86(10.857,7.8) 87(10.857,8.2) 88(10.857,8.6) 133(-10.857,8.6) 134(-10.857,8.2) 135(-10.857,7.8) 136(-10.857,7.4) 137(-10.857,7) 138(-10.857,6.6) 139(-10.857,6.2) 140(-10.857,5.8) 141(-10.857,5.4) 142(-10.857,5) 143(-10.857,4.6) 144(-10.857,4.2) 145(-10.857,3.8) 146(-10.857,3.4) 147(-10.857,3) 148(-10.857,2.6) 149(-10.857,2.2) 150(-10.857,1.8) 151(-10.857,1.4) 152(-10.857,1) 153(-10.857,0.6) 154(-10.857,0.2) 155(-10.857,-0.2) 156(-10.857,-0.6) 157(-10.857,-1) 158(-10.857,-1.4) 159(-10.857,-1.8) 160(-10.857,-2.2) 161(-10.857,-2.6) 162(-10.857,-3) 163(-10.857,-3.4) 164(-10.857,-3.8) 165(-10.857,-4.2) 166(-10.857,-4.6) 167(-10.857,-5) 168(-10.857,-5.4) 169(-10.857,-5.8) 170(-10.857,-6.2) 171(-10.857,-6.6) 172(-10.857,-7) 173(-10.857,-7.4) 174(-10.857,-7.8) 175(-10.857,-8.2) 176(-10.857,-8.6)
Top Overlay:
  circle w0.254: c-7.112,-7.112 r1.016
  circle w0.508: c-9.525,-11.43 r0.127
  lines w0.254: -8.89,-8.89 8.89,-8.89 8.89,8.89 -8.89,8.89 -8.89,-8.89
Mechanical 13:
  circle w0.1: c-8.894,-8.894 r0.5
  lines w0.15: -10,-10 -10,10 10,10 10,-10 -10,-10
Mechanical 15:
  circle w0.05: c0,0 r0.35
  lines w0.05: -0.5,0 0.5,0 ; 0,-0.5 0,0.5
  lines w0.15: -12.065,-12.065 12.065,-12.065 12.065,12.065 -12.065,12.065 -12.065,-12.065
3D body: height 1.45, standoff -0.01, extent -11.003,-11.003 11.003,11.003

## TQFP176 20x20_N [mm] "176脚，体宽：20x20mm, 脚距：0.4mm"
height 1.6
pads (176):
  oval 0.23x1.6 smd: 1(-8.6,-10.654) 2(-8.2,-10.654) 3(-7.8,-10.654) 4(-7.4,-10.654) 5(-7,-10.654) 6(-6.6,-10.654) 7(-6.2,-10.654) 8(-5.8,-10.654) 9(-5.4,-10.654) 10(-5,-10.654) 11(-4.6,-10.654) 12(-4.2,-10.654) 13(-3.8,-10.654) 14(-3.4,-10.654) 15(-3,-10.654) 16(-2.6,-10.654) 17(-2.2,-10.654) 18(-1.8,-10.654) 19(-1.4,-10.654) 20(-1,-10.654) 21(-0.6,-10.654) 22(-0.2,-10.654) 23(0.2,-10.654) 24(0.6,-10.654) 25(1,-10.654) 26(1.4,-10.654) 27(1.8,-10.654) 28(2.2,-10.654) 29(2.6,-10.654) 30(3,-10.654) 31(3.4,-10.654) 32(3.8,-10.654) 33(4.2,-10.654) 34(4.6,-10.654) 35(5,-10.654) 36(5.4,-10.654) 37(5.8,-10.654) 38(6.2,-10.654) 39(6.6,-10.654) 40(7,-10.654) 41(7.4,-10.654) 42(7.8,-10.654) 43(8.2,-10.654) 44(8.6,-10.654) 89(8.6,10.654) 90(8.2,10.654) 91(7.8,10.654) 92(7.4,10.654) 93(7,10.654) 94(6.6,10.654) 95(6.2,10.654) 96(5.8,10.654) 97(5.4,10.654) 98(5,10.654) 99(4.6,10.654) 100(4.2,10.654) 101(3.8,10.654) 102(3.4,10.654) 103(3,10.654) 104(2.6,10.654) 105(2.2,10.654) 106(1.8,10.654) 107(1.4,10.654) 108(1,10.654) 109(0.6,10.654) 110(0.2,10.654) 111(-0.2,10.654) 112(-0.6,10.654) 113(-1,10.654) 114(-1.4,10.654) 115(-1.8,10.654) 116(-2.2,10.654) 117(-2.6,10.654) 118(-3,10.654) 119(-3.4,10.654) 120(-3.8,10.654) 121(-4.2,10.654) 122(-4.6,10.654) 123(-5,10.654) 124(-5.4,10.654) 125(-5.8,10.654) 126(-6.2,10.654) 127(-6.6,10.654) 128(-7,10.654) 129(-7.4,10.654) 130(-7.8,10.654) 131(-8.2,10.654) 132(-8.6,10.654)
  oval 1.6x0.23 smd: 45(10.654,-8.6) 46(10.654,-8.2) 47(10.654,-7.8) 48(10.654,-7.4) 49(10.654,-7) 50(10.654,-6.6) 51(10.654,-6.2) 52(10.654,-5.8) 53(10.654,-5.4) 54(10.654,-5) 55(10.654,-4.6) 56(10.654,-4.2) 57(10.654,-3.8) 58(10.654,-3.4) 59(10.654,-3) 60(10.654,-2.6) 61(10.654,-2.2) 62(10.654,-1.8) 63(10.654,-1.4) 64(10.654,-1) 65(10.654,-0.6) 66(10.654,-0.2) 67(10.654,0.2) 68(10.654,0.6) 69(10.654,1) 70(10.654,1.4) 71(10.654,1.8) 72(10.654,2.2) 73(10.654,2.6) 74(10.654,3) 75(10.654,3.4) 76(10.654,3.8) 77(10.654,4.2) 78(10.654,4.6) 79(10.654,5) 80(10.654,5.4) 81(10.654,5.8) 82(10.654,6.2) 83(10.654,6.6) 84(10.654,7) 85(10.654,7.4) 86(10.654,7.8) 87(10.654,8.2) 88(10.654,8.6) 133(-10.654,8.6) 134(-10.654,8.2) 135(-10.654,7.8) 136(-10.654,7.4) 137(-10.654,7) 138(-10.654,6.6) 139(-10.654,6.2) 140(-10.654,5.8) 141(-10.654,5.4) 142(-10.654,5) 143(-10.654,4.6) 144(-10.654,4.2) 145(-10.654,3.8) 146(-10.654,3.4) 147(-10.654,3) 148(-10.654,2.6) 149(-10.654,2.2) 150(-10.654,1.8) 151(-10.654,1.4) 152(-10.654,1) 153(-10.654,0.6) 154(-10.654,0.2) 155(-10.654,-0.2) 156(-10.654,-0.6) 157(-10.654,-1) 158(-10.654,-1.4) 159(-10.654,-1.8) 160(-10.654,-2.2) 161(-10.654,-2.6) 162(-10.654,-3) 163(-10.654,-3.4) 164(-10.654,-3.8) 165(-10.654,-4.2) 166(-10.654,-4.6) 167(-10.654,-5) 168(-10.654,-5.4) 169(-10.654,-5.8) 170(-10.654,-6.2) 171(-10.654,-6.6) 172(-10.654,-7) 173(-10.654,-7.4) 174(-10.654,-7.8) 175(-10.654,-8.2) 176(-10.654,-8.6)
Top Overlay:
  circle w0.508: c-9.525,-10.922 r0.127
  circle w0.254: c-7.112,-7.112 r1.016
  lines w0.254: -8.89,-8.89 8.89,-8.89 8.89,8.89 -8.89,8.89 -8.89,-8.89
Mechanical 13:
  circle w0.1: c-8.894,-8.894 r0.5
  lines w0.15: -10,-10 -10,10 10,10 10,-10 -10,-10
Mechanical 15:
  circle w0.05: c0,0 r0.35
  lines w0.05: -0.5,0 0.5,0 ; 0,-0.5 0,0.5
  lines w0.15: -11.684,-11.684 11.684,-11.684 11.684,11.684 -11.684,11.684 -11.684,-11.684
3D body: height 1.45, standoff -0.01, extent -11.003,-11.003 11.003,11.003